# Altium footprint library AltiumDesigner.PcbLib: 1 footprints
Each footprint in its own frame and in the unit in brackets; x right, y up, seen from the top. Pads: shape width x height; smd on the part's side, far side on the other; paste and mask are expansions set on the pad; w line width, h text height; cw(c..) or ccw(c..) is an arc to the next point about the centre after c.
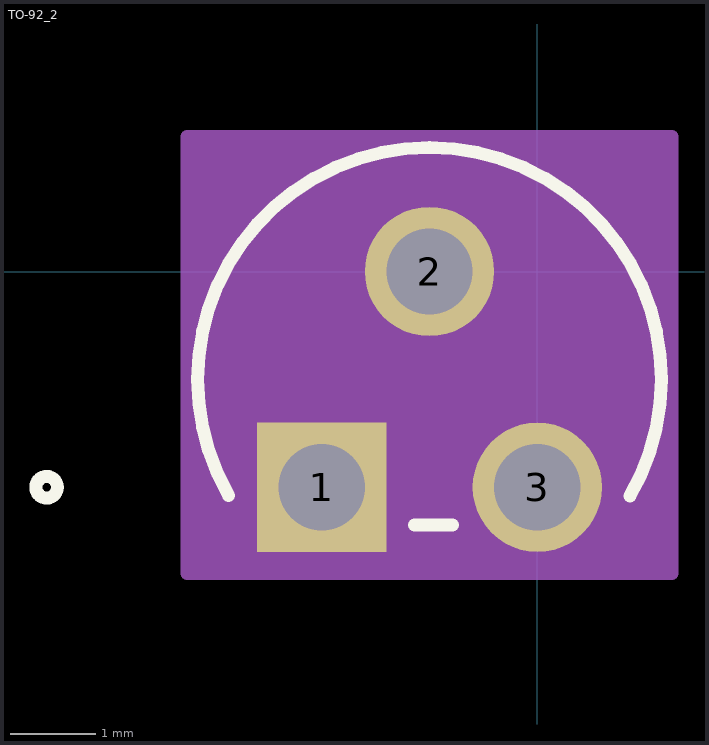
[diagram p0: the footprint, top view; thin cyan lines are the x and y axes]

## TO-92_2 [mil]
pads (3):
  rect 60x60 / inner round 60 / far side rect 60x60 hole 40 paste+0 mask+0: 1(-100,-100)
  round 60 hole 40 paste+0 mask+0: 2(-50,0) 3(0,-100)
Top Overlay:
  circle w6: c-227.5,-100 r5
  lines w6: -143.1,-103.75 cw(c-50,-50) 57.5,-50 cw(c-50,-50) 42.91,-104.08 ; -56.9,-117.5 -39.39,-117.5
Mechanical 13:
  circle w0: c-142.5,-100 r5
  lines w0: -131.24,-112.5 cw(c-50,-50) 31.24,-112.5
  lines w1: -131.24,-112.5 31.24,-112.5
  lines w6: -110,-100 -90,-100 ; -100,-110 -100,-90
Mechanical 15:
  region: 62.5,-140 -162.5,-140 -162.5,62.5 62.5,62.5
  lines w6: -162.5,-140 -162.5,62.5 62.5,62.5 62.5,-140 -162.5,-140
3D body: height 10, standoff 0, extent 0,0 10,10